# Altium integrated library LBAA0QB1SJ-296.IntLib: 1 symbol
Pins are listed as number, name and electrical type; pins without a type are passive.

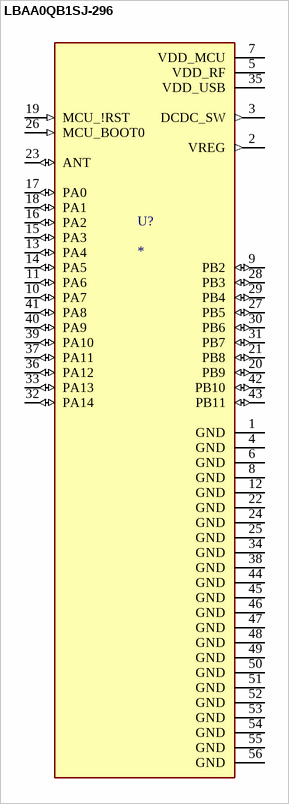
[diagram p0: symbol LBAA0QB1SJ-296]

## LBAA0QB1SJ-296
designator U?
RF Modules Type 1SJ 868/915MHz PCB Whip Flex Ant; MP: LBAA0QB1SJ-296; MF: Murata Electronics; SnapEDA_Link: https://www.snapeda.com/parts/LBAA0QB1SJ-296/Murata/view-part/5630749/?ref=snap; Value: *; Availability: Not in stock; Check_prices: https://www.snapeda.com/parts/LBAA0QB1SJ-296/Murata/view-part/5630749/?ref=eda; Package: None; Price: None
footprint MODULE_LBAA0QB1SJ-296
pins: 1 GND (power), 2 VREG (out), 3 DCDC_SW (out), 4 GND (power), 5 VDD_RF (power), 6 GND (power), 7 VDD_MCU (power), 8 GND (power), 9 PB2 (io), 10 PA7 (io), 11 PA6 (io), 12 GND (power), 13 PA4 (io), 14 PA5 (io), 15 PA3 (io), 16 PA2 (io), 17 PA0 (io), 18 PA1 (io), 19 MCU_!RST (in), 20 PB9 (io), 21 PB8 (io), 22 GND (power), 23 ANT (io), 24 GND (power), 25 GND (power), 26 MCU_BOOT0 (in), 27 PB5 (io), 28 PB3 (io), 29 PB4 (io), 30 PB6 (io), 31 PB7 (io), 32 PA14 (io), 33 PA13 (io), 34 GND (power), 35 VDD_USB (power), 36 PA12 (io), 37 PA11 (io), 38 GND (power), 39 PA10 (io), 40 PA9 (io), 41 PA8 (io), 42 PB10 (io), 43 PB11 (io), 44 GND (power), 45 GND (power), 46 GND (power), 47 GND (power), 48 GND (power), 49 GND (power), 50 GND (power), 51 GND (power), 52 GND (power), 53 GND (power), 54 GND (power), 55 GND (power), 56 GND (power)